# Altium integrated library PC_Connectors_Integrated_Library.IntLib: 11 symbols
Pins are listed as number, name and electrical type; pins without a type are passive.

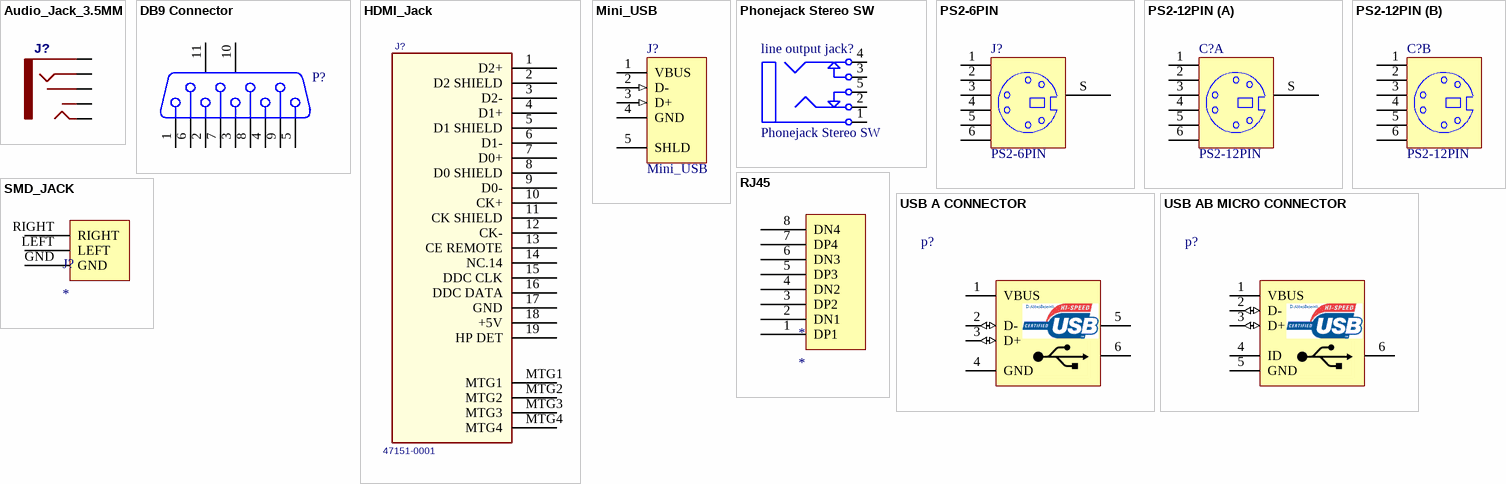
[diagram p0: symbols Audio_Jack_3.5MM to USB AB MICRO CONNECTOR]

## Audio_Jack_3.5MM
designator J?
PROD_ID: CONN-08774; SF_ID: PRT-08032
footprint _AUDIO-JACK
pins: RING, RSH, SLEEVE, TIP, TSH

## DB9 Connector
designator P?  (value not drawn)
Receptacle Assembly, 9 Position, Right Angle; PackageDocument: O; Positions: 9; Published: 15-Jun-2001; LatestRevisionDate: 17-Jul-2002; LatestRevisionNote: Re-released for DXP Platform.; DatasheetDocument: 1-Sep-1999; PackageReference: 788750; Publisher: Altium Limited; Orientation: Right Angle; Gender: Receptacle
footprint _DB9 Female (Footprint not found)
footprint _DB9 Male (Footprint not found)
pins: 1, 2, 3, 4, 5, 6, 7, 8, 9, 10 MH1, 11 MH2

## HDMI_Jack
designator J?, comment 47151-0001
CONN RCPT 19POS HDMI RT ANG SMD; Manufacturer: Molex Connector Corporation; .Checked PCB: used; Number of Positions: 19; Pitch: 0.50mm (.020"); Gender: Receptacle; .Checked SCH: used; Category: Connectors, Interconnects; Connector Type: HDMI; Family: USB, IEEE-1394 (Firewire), DVI, HDMI; Manufacturer Part Number: 47151-0001; Operating Temperature: -20°C to +85°C; Price 1k [$]: 1.74610; Supplier: Digikey; Supplier Part Number: WM19086CT-ND; Value: 47151-0001; Supplier 1: Digi-Key; Supplier Part Number 1: WM19086CT-ND; RoHS: RoHS Compliant; Stock 1: 2756; Pricing 1: 1=3.1, 10=2.57, 50=2.1456, 100=1.9034 (USD); Number of Contacts: 19; Specifications: -; Mounting Type: Surface Mount, Right Angle, Horizontal; Features: Detent Lock; Packaging: Cut Tape (CT); Ingress Protection: -; ComponentLink1URL: http://www.molex.com/pdm_docs/sd/471510001_sd.pdf; ComponentLink1Description: http://www.molex.com/pdm_docs/sd/471510001_sd.pdf
footprint HDMI_S_RA_SMD (HDMI RIGHT ANGLE HEADER)
pins: 1 D2+, 2 D2 SHIELD, 3 D2-, 4 D1+, 5 D1 SHIELD, 6 D1-, 7 D0+, 8 D0 SHIELD, 9 D0-, 10 CK+, 11 CK SHIELD, 12 CK-, 13 CE REMOTE, 14 NC.14, 15 DDC CLK, 16 DDC DATA, 17 GND, 18 +5V, 19 HP DET, MTG1, MTG2, MTG3, MTG4

## Mini_USB
designator J?
USB 2.0, Right Angle, SMT, B Type, Receptacle, 5 Position, Black; ContactMaterial: Copper Alloy; ContactPlating: Gold (30); PCB_Layout: Complies with manufacturer's recommendation.; DrillSize: Corresponds to nominal value.; PanelGround: Without; Published: 15-Jul-2004; DatasheetDocument: 27-Jun-2003; PackageDocument: 27-Jun-2003; PackageReference: 440247; Publisher: Altium Limited; HousingMaterial: Thermoplastic; ComponentLink1Description: Manufacturer Link; ComponentLink1URL: http://www.tycoelectronics.com/; ComponentLink2Description: Packaging Specification; ComponentLink2URL: http://ecommas.tycoelectronics.com/commerce/DocumentDelivery/DDEController?Action=showdoc&DocId=Customer+Drawing%7F440247%7FD%7Fpdf%7FEnglish%7FC_440247_D.pdf
footprint My_USB
pins: 1 VBUS (power) "Power", 2 D- (in) "-DATA", 3 D+ (in) "+DATA", 4 GND (power) "Ground", 5 SHLD "Shield"

## Phonejack Stereo SW
designator line output jack?
3-Conductor Jack with 2 break contacts (normals) and 2 auxiliary make contacts; Published: 5-Jan-2004; LatestRevisionDate: 17-Dec-2003; LatestRevisionNote: PCB Footprint replaced.; DatasheetDocument: 07-Mar-2000; Publisher: Altium Limited; ComponentLink1Description: Manufacturer Link; ComponentLink1URL: http://domino.kycon.com/internet/Products.html
footprint ST-3150-5N (Connector; Stereo Jack, 3.5mm, 5 Position)
pins: 1, 1A, 1B, 2, 2A, 2B, 3, 3A, 3B, 4, 4A, 4B, 5, 5A, 5B

## PS2-6PIN
designator J?
6 Pin Through Hole PS2 Socket (Kycon P/N); Published: 17-Dec-2003; Publisher: Altium Limited; ComponentLink1Description: Manufacturer Link; ComponentLink1URL: http://www.oupiin.com/prodindx.html#Headers
footprint My_PS2-6PIN
pins: 1, 2, 3, 4, 5, 6, S

## PS2-12PIN
designator C?
12 Pin Through Hole PS2 Socket (
footprint My_PS2_2
part A pins: 1, 2, 3, 4, 5, 6, S
part B pins: 7 1, 8 2, 9 3, 10 4, 11 5, 12 6

## RJ45
designator *
footprint RJ45
pins: 1 DP1, 2 DN1, 3 DP2, 4 DN2, 5 DP3, 6 DN3, 7 DP4, 8 DN4

## SMD_JACK
designator J?
footprint SMD_Headphone_Jack
pins: GND, LEFT, RIGHT

## USB A CONNECTOR
designator p?, comment USB Connector  (value not drawn)
USB Connector-A Type; Designer: ABBAS BASEREH; Max Current: 600mA; Mounting Technology: Surface Mount\Through-Hole; Category: Connector; Pin Count: 4-6; Publisher: ABBAS BASEREH; Status: Unreleased; ComponentLink1Description: Datasheet; ComponentLink2Description: Reference; Update: 1395-11-17
signal-integrity model Connector (USB B Type Connector)
footprint USB2.5-2H4C (Connector; USB1.1, Type A, Thru-Hole; 4 Position; Right Angle)
footprint USB2.5-2V4A (Connector; USB1.1, Type A, Thru-Hole; 4 Position; Vertical)
footprint USB/SM2.5-4H4 (Connector; USB1.1, Type A, SM; 4 Position; Right Angle)
footprint USB/SM2.5-4H4A (Connector; USB1.1, Type A, SM; 4 Position; Right Angle)
footprint USB2.0-4H4 (Connector; USB1.1, Type A, Thru-Hole; 4 Position; Right Angle)
footprint USB A TYPE Right Angle (Connector; USB1.1, Type A, SM; 4 Position; Right Angle DESIGNER ABBAS BASEREH)
pins: 1 VBUS (power), 2 D- (io), 3 D+ (io), 4 GND (power), 5 MH (power), 6 MH (power)
3 alternate drawings of the same symbol
text: D:AbbasBasereh

## USB AB MICRO CONNECTOR
designator p?, comment USB Connector  (value not drawn)
USB MICRO-B Type Connector; Designer: ABBAS BASEREH; Max Current: 1600mA; Mounting Technology: Surface Mount\Through-Hole; Category: Connector; Pin Count: 5-7; Publisher: ABBAS BASEREH; Status: Unreleased; ComponentLink1Description: Datasheet; ComponentLink2Description: Reference; Update: 1395-11-17
footprint USB_AB_BM_SHS (USB Micro AB - Standard (Bottom mount), Shell SMT DESIGNER ABBAS BASEREH)
footprint USB_AB_receptacle (USB Micro AB - receptacle  DESIGNER ABBAS BASEREH)
pins: 1 VBUS (power), 2 D- (io), 3 D+ (io), 4 ID (power), 5 GND (power), 6 MH (power)
3 alternate drawings of the same symbol
text: D:AbbasBasereh